# Altium footprint library HANRUN_HR961160C.PcbLib: 1 footprints
Each footprint in its own frame and in the unit in brackets; x right, y up, seen from the top. Pads: shape width x height; smd on the part's side, far side on the other; paste and mask are expansions set on the pad; w line width, h text height; cw(c..) or ccw(c..) is an arc to the next point about the centre after c.
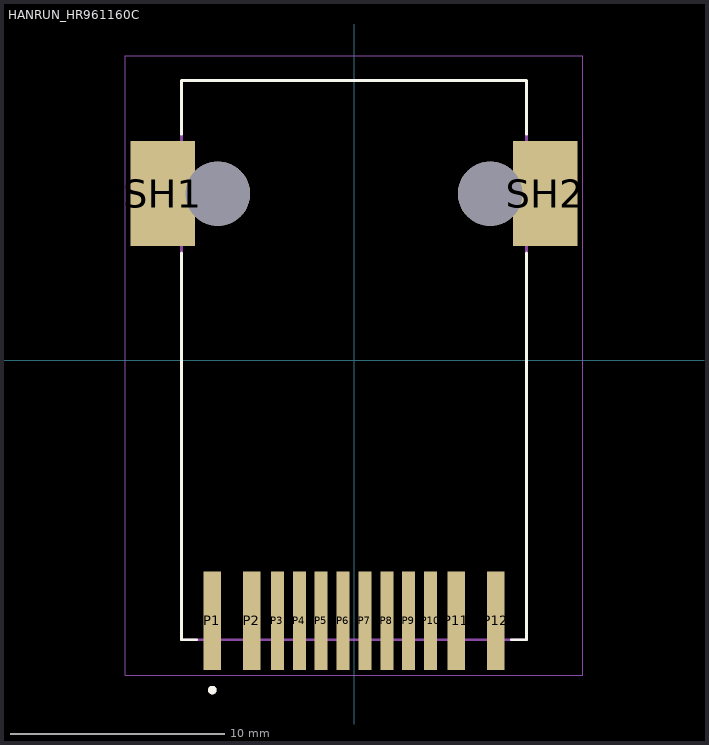
[diagram p0: the footprint, top view; thin cyan lines are the x and y axes]

## HANRUN_HR961160C [mm]
height 15.63
pads (16):
  rect 0.81x4.6 smd: P1(-6.61,-12.15) P2(-4.77,-12.15) P11(4.77,-12.15) P12(6.61,-12.15)
  rect 0.61x4.6 smd: P3(-3.57,-12.15) P4(-2.55,-12.15) P5(-1.53,-12.15) P6(-0.51,-12.15) P7(0.51,-12.15) P8(1.53,-12.15) P9(2.55,-12.15) P10(3.57,-12.15)
  rect 3x4.9 smd: SH1(-8.92,7.77) SH2(8.92,7.77)
  round 3 hole 3 unplated: ""(-6.35,7.77) ""(6.35,7.77)
Top Overlay:
  circle w0.2: c-6.61,-15.39 r0.1
  lines w0.127: -8.05,5 -8.05,-13.05 -7.335,-13.05 ; -8.05,10.54 -8.05,13.05 8.05,13.05 8.05,10.54 ; 7.335,-13.05 8.05,-13.05 8.05,5
Mechanical 13:
  circle w0.2: c-6.61,-15.39 r0.1
  lines w0.127: -8.05,-13.05 -8.05,13.05 8.05,13.05 8.05,-13.05 -8.05,-13.05
Mechanical 15:
  lines w0.05: -10.67,-14.7 10.67,-14.7 10.67,14.2 -10.67,14.2 -10.67,-14.7
3D body "step_temp.STEP": height 15.33, standoff -1, extent -9.57,-13.96 9.57,13.575